# EAGLE library part TMP102AIDRLT (library Sensor)
SENSOR ANALOG -40C-125C TO92-3
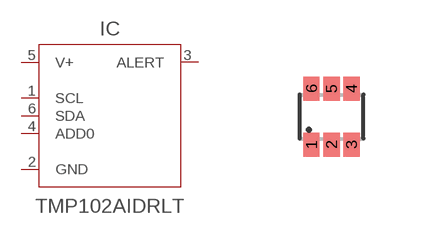
[diagram p8: symbol with the pads of SOT563; footprint SOT563]

Designator prefix IC

## TMP102AIDRLT_SOT563 (CATEGORY: Sensor; MANUFACTURER: TI; MPN: TMP102AIDRLR; OPERATING_TEMP: -55 to 150 °C; PART_STATUS: Active; ROHS_COMPLIANT: RoHS3 Compliant; SUB-CATEGORY: Temperature; VALUE: TMP102AIDRLR)  [SOT563]
1  SCL
2  GND  pas
3  ALERT  out
4  ADD0  in
5  V+  pwr
6  SDA

## Footprint SOT563 (pad centres in mm)
SOT-563 Source: www.centralsemi.com ..SOT-563PD.pdf
smd 0.4 x 0.6: 1 -0.5,-0.7; 2 0,-0.7; 3 0.5,-0.7; 4 0.5,0.7; 5 0,0.7; 6 -0.5,0.7